# Altium schematic symbol library MM3Z8V2ST1.Schlib: 1 symbol
Pins are listed as number, name and electrical type; pins without a type are passive.

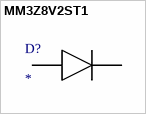
[diagram p0: symbol MM3Z8V2ST1]

## MM3Z8V2ST1
designator D?
Diode Schottky 60 V 1A (DC) Surface Mount SOD-123F
pins: 1, 2